# Altium footprint library coilcraft-trafo.PcbLib: 3 footprints
Each footprint in its own frame and in the unit in brackets; x right, y up, seen from the top. Pads: shape width x height; smd on the part's side, far side on the other; paste and mask are expansions set on the pad; w line width, h text height; cw(c..) or ccw(c..) is an arc to the next point about the centre after c.
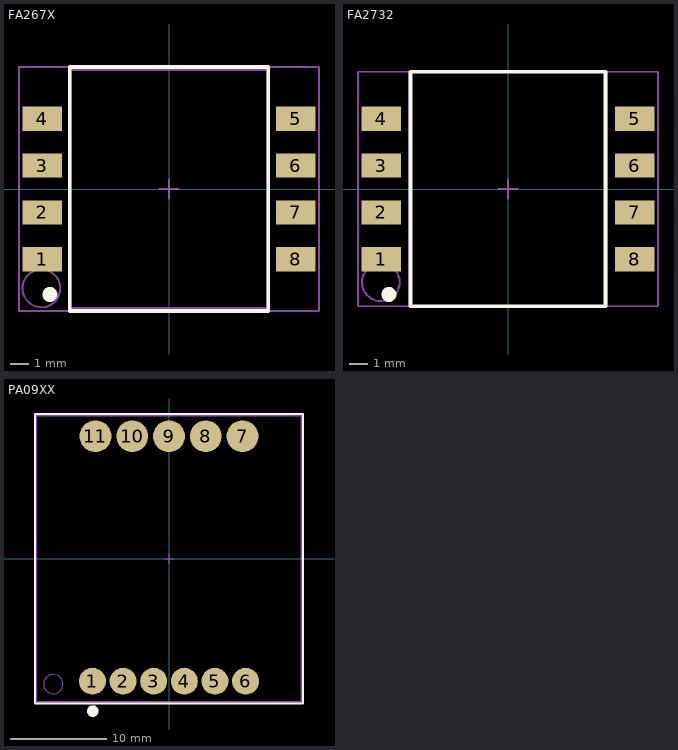
[diagram p0: the footprints below, top view; thin cyan lines are the x and y axes]

## FA267X [mm] "PoE Transformer"
height 11.43
pads (8):
  rect 2.1x1.3 smd: 1(-6.75,-3.75) 2(-6.75,-1.25) 3(-6.75,1.25) 4(-6.75,3.75) 5(6.75,3.75) 6(6.75,1.25) 7(6.75,-1.25) 8(6.75,-3.75)
Top Overlay:
  circle w0.4: c-6.35,-5.625 r0.2
  lines w0.2: -5.3,-6.5 5.3,-6.5 5.3,6.5 -5.3,6.5 -5.3,-6.5
Mechanical 13:
  lines w0.1: -0.5,0 0.5,0 ; 0,-0.5 0,0.5 ; -5.25,-6.35 -5.25,6.35 5.25,6.35 5.25,-6.35 -5.25,-6.35
Mechanical 15:
  circle w0.1: c-6.808,-5.3 r1.008
  lines w0.1: -8,-6.5 -8,6.5 8,6.5 8,-6.5 -8,-6.5
  text ".Designator" at -2.3,-0.2 h0.5
3D body "FA267x-AL.STEP": height 11.43, standoff 0, extent -7.62,-6.35 7.62,6.35

## FA2732 [mm] "PoE Transformer"
height 11.43
pads (8):
  rect 2.1x1.3 smd: 1(-6.75,-3.75) 2(-6.75,-1.25) 3(-6.75,1.25) 4(-6.75,3.75) 5(6.75,3.75) 6(6.75,1.25) 7(6.75,-1.25) 8(6.75,-3.75)
Top Overlay:
  circle w0.4: c-6.35,-5.625 r0.2
  lines w0.2: -5.2,-6.25 5.2,-6.25 5.2,6.25 -5.2,6.25 -5.2,-6.25
Mechanical 13:
  lines w0.1: -0.5,0 0.5,0 ; 0,-0.5 0,0.5 ; -5.25,-6.25 -5.25,6.25 5.25,6.25 5.25,-6.25 -5.25,-6.25
Mechanical 15:
  circle w0.1: c-6.783,-4.975 r1.008
  lines w0.1: -8,-6.25 -8,6.25 8,6.25 8,-6.25 -8,-6.25
  text ".Designator" at -2.3,-0.2 h0.5
3D body "Coilcraft-FA2732-AL.step": height 11.02, standoff 0.02, extent -7.62,-6.35 7.62,6.35

## PA09XX [mm] "PA09 Series Transformer"
height 10.1
pads (11):
  round 2.79 smd: 1(-7.938,-12.7) 2(-4.763,-12.7) 3(-1.587,-12.7) 4(1.587,-12.7) 5(4.763,-12.7) 6(7.938,-12.7)
  round 3.3 smd: 7(7.62,12.7) 8(3.81,12.7) 9(0,12.7) 10(-3.81,12.7) 11(-7.62,12.7)
Top Overlay:
  circle w0.6: c-7.9,-15.8 r0.3
  lines w0.2: -13.9,-15 13.9,-15 13.9,15 -13.9,15 -13.9,-15
Mechanical 13:
  lines w0.1: -0.5,0 0.5,0 ; 0,-0.5 0,0.5 ; -13.7,-14.8 13.7,-14.8 13.7,14.8 -13.7,14.8 -13.7,-14.8
Mechanical 15:
  circle w0.1: c-12,-13 r1
  lines w0.1: -13.8,-14.9 13.8,-14.9 13.8,14.9 -13.8,14.9 -13.8,-14.9
  text ".Designator" at -1.5,0 h0.5
3D body "Coilcraft-PL300-104L.STEP": height 11.95, standoff -0.15, extent -13.335,-14.73 13.335,14.73